# Altium footprint library Connectors Through Hole.PcbLib: 15 footprints
Each footprint in its own frame and in the unit in brackets; x right, y up, seen from the top. Pads: shape width x height; smd on the part's side, far side on the other; paste and mask are expansions set on the pad; w line width, h text height; cw(c..) or ccw(c..) is an arc to the next point about the centre after c.
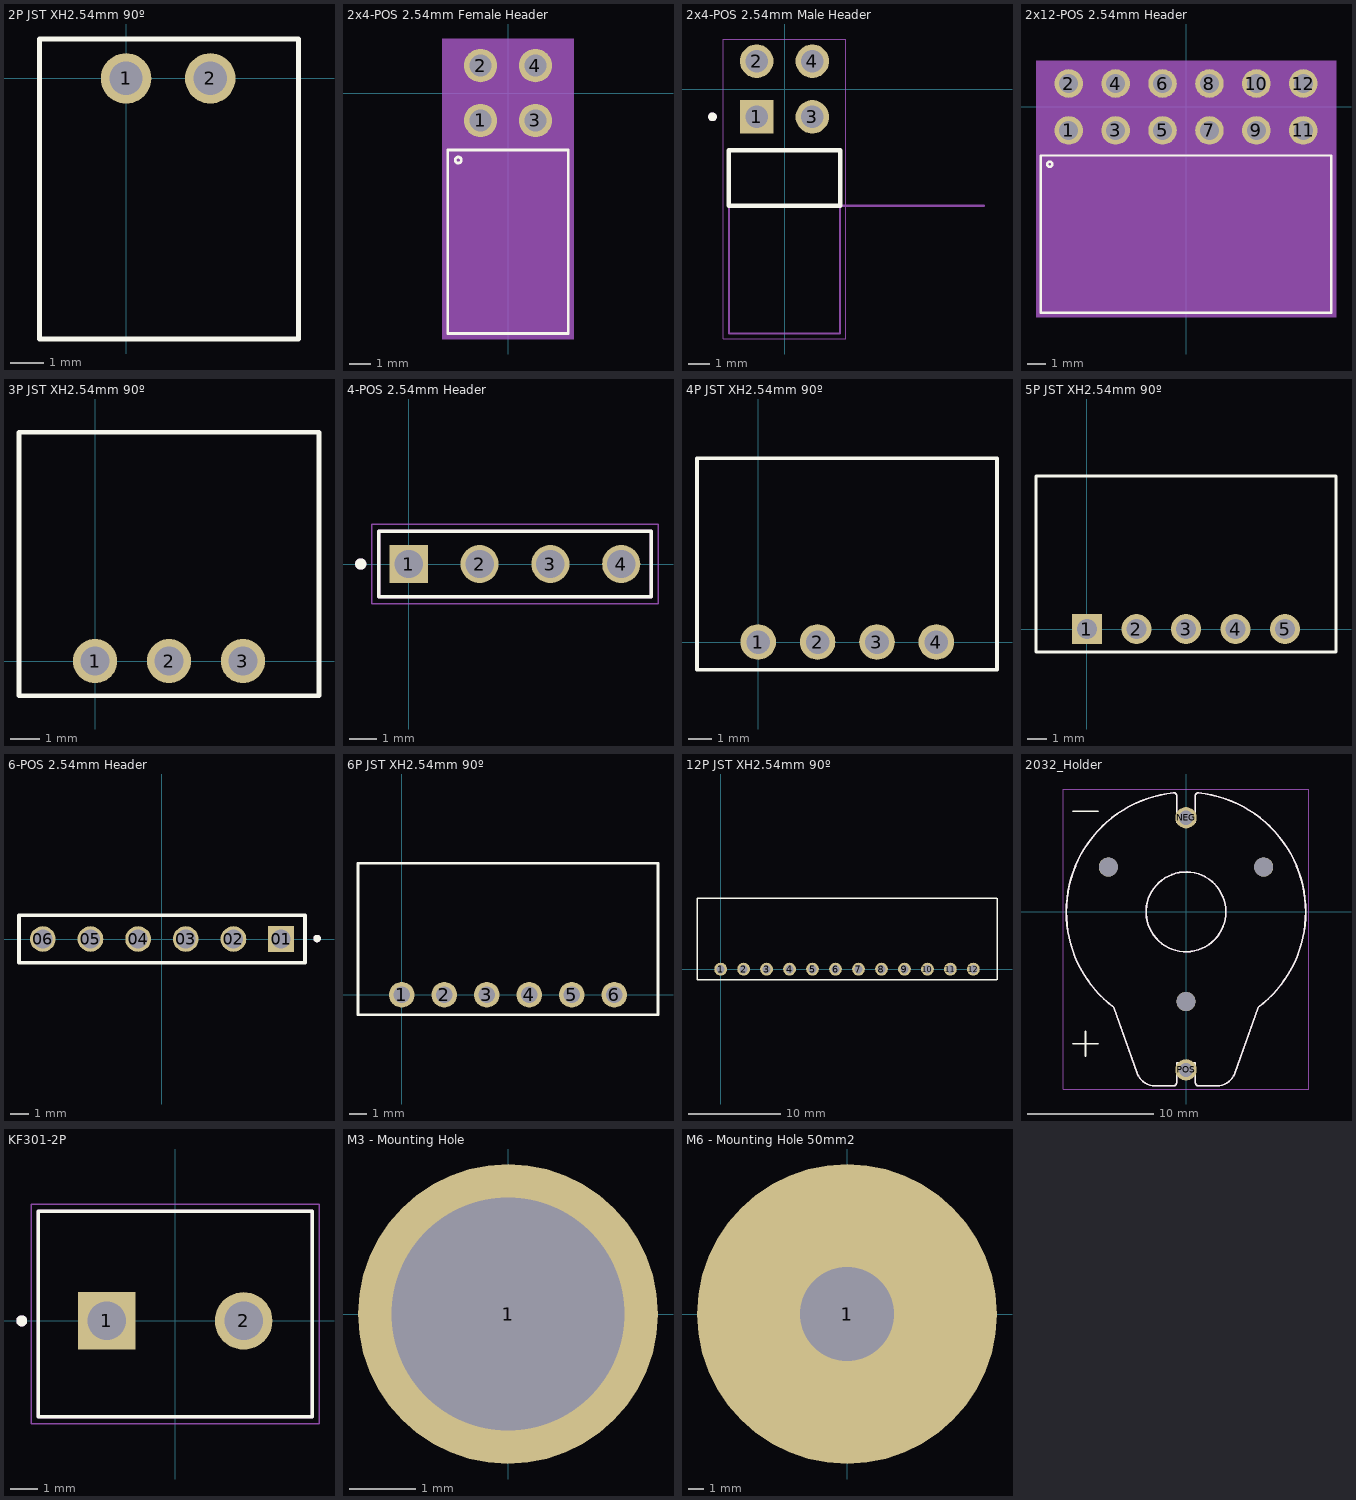
[diagram p0: the footprints below, top view; thin cyan lines are the x and y axes]

## 2P JST XH2.54mm 90º [mil]
pads (2):
  round 59 / inner round 60 / far side round 59 hole 39 paste-99999 mask+0: 1(0,0) 2(98.43,0)
Top Overlay:
  lines w6: -101.3,-304.49 201.7,-304.49 201.7,46 -101.3,46 -101.3,-304.49
3D body "2 pin 2.54.STEP": height 236.22, standoff -167.32, extent -98.43,-285.43 196.85,9.84

## 2x4-POS 2.54mm Female Header [mm]
pads (4):
  round 1.545 hole 1.03: 1(-1.27,-1.27) 2(-1.27,1.27) 3(1.27,-1.27) 4(1.27,1.27)
Top Overlay:
  circle w0.127: c-2.3,-3.1 r0.141
  lines w0.127: -2.79,-11.13 2.79,-11.13 2.79,-2.63 -2.79,-2.63 -2.79,-11.13
Mechanical 15:
  region: 3.04,-11.38 -3.04,-11.38 -3.04,2.5 3.04,2.5
3D body "613004243121.stp": height 5.02, standoff -3.28, extent -2.786,-11.15 2.794,1.45

## 2x4-POS 2.54mm Male Header [mm]
height 6.1
pads (4):
  rect 1.53x1.53 / inner round 1.53 / far side rect 1.53x1.53 hole 1.02: 1(-1.27,-1.27)
  round 1.53 hole 1.02: 2(-1.27,1.27) 3(1.27,-1.27) 4(1.27,1.27)
Top Overlay:
  circle w0.2: c-3.29,-1.27 r0.1
  lines w0.2: -2.54,-5.33 -2.54,-2.79 2.54,-2.79 2.54,-5.33 -2.54,-5.33
Mechanical 13:
  circle w0.2: c-3.29,-1.27 r0.1
  lines w0.1: 9.1,-5.33 2.54,-5.33 ; -2.54,-5.33 -2.54,-11.17 2.54,-11.17 2.54,-5.33 ; -2.54,-5.33 -2.54,-2.79 2.54,-2.79 2.54,-5.33 ; -2.54,-5.33 2.54,-5.33
  text "PCB Edge" at 3.01,-5.2 h1.02
Mechanical 15:
  lines w0.05: -2.79,-11.42 -2.79,2.285 2.79,2.285 2.79,-11.42 -2.79,-11.42
3D body "HTSW-102-08-L-D-RA.stp": height 6.15, standoff -2.23, extent -2.591,-11.176 2.489,1.587

## 2x12-POS 2.54mm Header [mm]
pads (12):
  round 1.545 hole 1.03: 1(-6.35,-1.27) 2(-6.35,1.27) 3(-3.81,-1.27) 4(-3.81,1.27) 5(-1.27,-1.27) 6(-1.27,1.27) 7(1.27,-1.27) 8(1.27,1.27) 9(3.81,-1.27) 10(3.81,1.27) 11(6.35,-1.27) 12(6.35,1.27)
Top Overlay:
  circle w0.127: c-7.38,-3.1 r0.141
  lines w0.127: -7.87,-11.13 -7.87,-2.63 7.87,-2.63 7.87,-11.13 -7.87,-11.13
Mechanical 15:
  region: 8.12,-11.38 -8.12,-11.38 -8.12,2.5 8.12,2.5
3D body "613012243121.stp": height 5.02, standoff -3.28, extent -7.87,-11.15 7.87,1.45

## 3P JST XH2.54mm 90º [mil]
pads (3):
  round 59 / inner round 60 / far side round 59 hole 39 paste-99999 mask+0: 1(0,0) 2(98.43,0) 3(196.86,0)
Top Overlay:
  lines w6: -101.3,-45.98 -101.3,304.49 298.15,304.49 298.16,-45.98 -101.3,-45.98
3D body "3 pin 2.54.SLDPRT": height 236.22, standoff -167.32, extent -98.43,-9.84 295.28,285.43

## 4-POS 2.54mm Header [mm]
pads (4):
  rect 1.37x1.37 hole 1.02: 1(0,0)
  round 1.37 hole 1.02: 2(2.54,0) 3(5.08,0) 4(7.62,0)
Top Overlay:
  circle w0.2: c-1.72,0 r0.1
  lines w0.127: -1.07,-1.17 8.69,-1.17 8.69,1.17 -1.07,1.17 -1.07,-1.17
Mechanical 13:
  circle w0.2: c-1.72,0 r0.1
  lines w0.127: -1.07,-1.17 8.69,-1.17 ; -1.07,-1.17 8.69,-1.17 ; -1.07,-1.17 -1.07,1.17 8.69,1.17 8.69,-1.17
Mechanical 15:
  lines w0.05: -1.32,-1.42 8.94,-1.42 8.94,1.42 -1.32,1.42 -1.32,-1.42

## 4P JST XH2.54mm 90º [mil]
pads (4):
  round 59 / inner round 60 / far side round 59 hole 39 paste-99999 mask+0: 1(0,0) 2(98.43,0) 3(196.85,0) 4(295.28,0)
Top Overlay:
  lines w6: -101.3,-45.98 -101.3,304.49 395.67,304.49 395.67,-45.98 -101.3,-45.98
3D body "4 pin 2.54.SLDPRT": height 236.22, standoff -167.32, extent -98.43,-9.84 393.7,285.43

## 5P JST XH2.54mm 90º [mm]
height 6.1
pads (5):
  rect 1.508x1.508 / inner round 1.508 / far side rect 1.508x1.508 hole 1: 1(0,0)
  round 1.508 hole 1: 2(2.5,0) 3(5,0) 4(7.5,0) 5(10,0)
Top Overlay:
  lines w0.152: -2.573,-1.168 -2.573,7.734 12.573,7.734 12.573,-1.168 -2.573,-1.168
3D body "5 pin 2.54.SLDPRT": height 6, standoff -4.25, extent -2.5,-0.25 12.5,7.25

## 6-POS 2.54mm Header [mm]
pads (6):
  rect 1.37x1.37 / inner round 1.37 / far side rect 1.37x1.37 hole 1.02: 01(6.35,0)
  round 1.37 hole 1.02: 02(3.81,0) 03(1.27,0) 04(-1.27,0) 05(-3.81,0) 06(-6.35,0)
Top Overlay:
  circle w0.2: c8.27,0.025 r0.1
  lines w0.2: -7.62,-1.27 -7.62,1.27 7.62,1.27 7.62,-1.27 -7.62,-1.27
Mechanical 13:
  circle w0.2: c8.27,0.025 r0.1
  lines w0.1: -7.62,-1.27 -7.62,1.27 7.62,1.27 7.62,-1.27 -7.62,-1.27

## 6P JST XH2.54mm 90º [mil]
pads (6):
  round 59 / inner round 60 / far side round 59 hole 39 paste-99999 mask+0: 1(0,0) 2(98.43,0) 3(196.85,0) 4(295.28,0) 5(393.7,0) 6(492.13,0)
Top Overlay:
  lines w6: -101.3,-45.98 593.43,-45.98 593.43,304.49 -101.3,304.49 -101.3,-45.98
3D body "6 pin 2.54.SLDPRT": height 236.22, standoff -167.32, extent -98.43,-9.84 590.55,285.43

## 12P JST XH2.54mm 90º [mil]
pads (12):
  round 55 / inner round 60 / far side round 55 hole 35 paste-99999 mask+0: 1(0,0) 2(98.43,0) 3(196.85,0) 4(295.28,0) 5(393.7,0) 6(492.13,0) 7(590.55,0) 8(688.98,0) 9(787.4,0) 10(885.83,0) 11(984.25,0) 12(1082.68,0)
Top Overlay:
  lines w6: -101.3,-46 -101.3,304.49 1183.98,304.49 1183.98,-46 -101.3,-46

## 2032_Holder [mm]
pads (5):
  round 1.7 hole 1.13: NEG(0,7.493) POS(0,-12.573)
  round 1.52 hole 1.52 unplated: ""(-6.179,3.568) ""(0,-7.135) ""(6.179,3.568)
Top Overlay:
  circle w0.127: c0,0 r3.175
  lines w0.127: -9.525,-0.004 ccw(c-0.005,-0.004) -5.734,-7.607 ; -9.525,0 cw(c-0.002,0) -0.997,9.471 ; -9,-10.5 -7,-10.5 ; -9,8 -7,8 ; -8,-11.5 -8,-9.5 ; -5.75,-7.595 -3.867,-12.851 ; -3.864,-12.858 ccw(c-2.455,-12.345) -2.455,-13.845 -1,-13.845 ccw(c-1,-13.595) -0.75,-13.595 -0.75,-12 0.75,-12 0.75,-13.595 ccw(c1,-13.595) 1,-13.845 2.455,-13.845 ccw(c2.455,-12.345) 3.864,-12.858 ; -0.96,9.475 cw(c-0.968,9.257) -0.75,9.25 -0.75,7.135 0.75,7.135 0.75,9.25 ; 0.75,9.248 cw(c0.965,9.26) 0.961,9.475 ; 0.997,9.471 cw(c0.002,0) 9.525,0 ; 3.867,-12.851 5.75,-7.595 ; 5.734,-7.607 ccw(c0.005,-0.004) 9.525,-0.004
Mechanical 13:
  circle w0.127: c0,0 r3.175
  lines w0.127: -9.525,-0.004 ccw(c-0.005,-0.004) -5.734,-7.607 ; -9.525,0 cw(c-0.002,0) -0.997,9.471 ; -5.75,-7.595 -3.867,-12.851 ; -3.864,-12.858 ccw(c-2.455,-12.345) -2.455,-13.845 -1,-13.845 ccw(c-1,-13.595) -0.75,-13.595 -0.75,-12 0.75,-12 0.75,-13.595 ccw(c1,-13.595) 1,-13.845 2.455,-13.845 ccw(c2.455,-12.345) 3.864,-12.858 ; -0.96,9.475 cw(c-0.968,9.257) -0.75,9.25 -0.75,7.135 0.75,7.135 0.75,9.25 ; 0.75,9.248 cw(c0.965,9.26) 0.961,9.475 ; 0.997,9.471 cw(c0.002,0) 9.525,0 ; 3.867,-12.851 5.75,-7.595 ; 5.734,-7.607 ccw(c0.005,-0.004) 9.525,-0.004
Mechanical 15:
  lines w0.05: -9.775,-14.095 -9.775,9.775 9.775,9.775 9.775,-14.095 -9.775,-14.095

## KF301-2P [mm]
pads (2):
  rect 2.1x2.1 hole 1.4: 1(-2.5,0)
  round 2.1 hole 1.4: 2(2.5,0)
Top Overlay:
  circle w0.2: c-5.6,0 r0.1
  lines w0.127: -5,-3.5 -5,4 5,4 5,-3.5 -5,-3.5
Mechanical 13:
  circle w0.2: c-5.6,0 r0.1
  lines w0.127: -5,-3.5 5,-3.5 5,4 -5,4 -5,-3.5
Mechanical 15:
  lines w0.05: -5.25,-3.75 5.25,-3.75 5.25,4.25 -5.25,4.25 -5.25,-3.75
3D body "KF301-5.0-2P.step": height 10, standoff -3.6, extent -5,-3.2 5,4.5

## M3 - Mounting Hole [mm]
pads (1):
  round 4.5 / inner round 1.524 / far side round 4.5 hole 3.5: 1(0,0)

## M6 - Mounting Hole 50mm2 [mm]
pads (1):
  round 20 / inner round 1.524 / far side round 20 hole 6.3: 1(0,0)